# Altium schematic symbol library 1825027.SchLib: 1 symbol
Pins are listed as number, name and electrical type; pins without a type are passive.

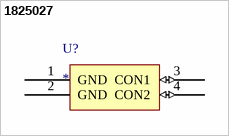
[diagram p0: symbol 1825027]

## 1825027
designator U?
Button
pins: 1 GND (power), 2 GND (power), 3 CON1 (io), 4 CON2 (io)